# Altium integrated library ATK-CLRK3568B-Core.IntLib: 1 symbol
Pins are listed as number, name and electrical type; pins without a type are passive.

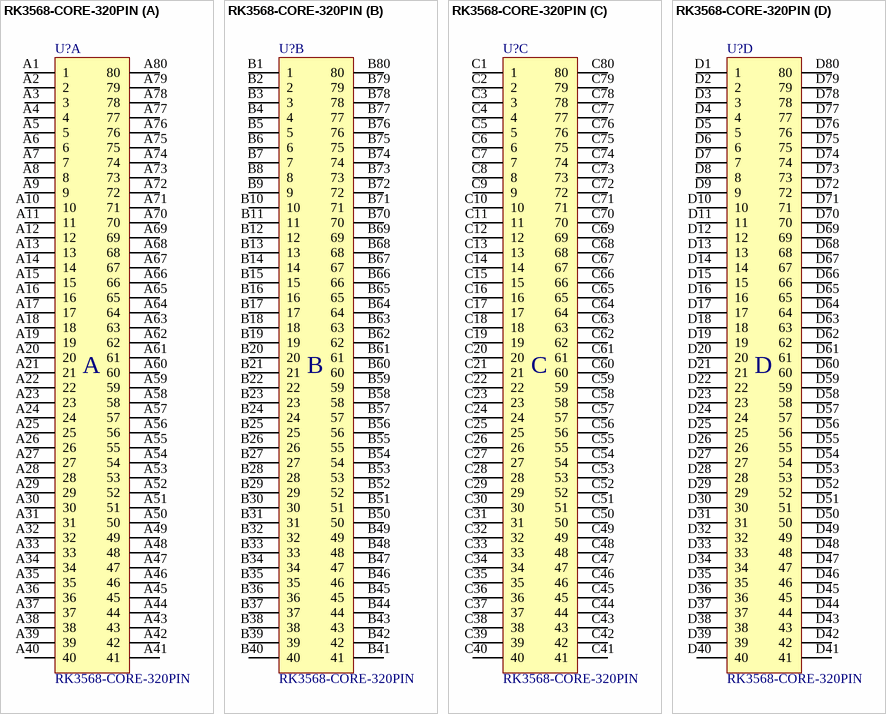
[diagram p0: symbol RK3568-CORE-320PIN]

## RK3568-CORE-320PIN
designator U?
footprint RK3568-CORE-320PIN (Footprint not found)
part A pins: A1 1, A2 2, A3 3, A4 4, A5 5, A6 6, A7 7, A8 8, A9 9, A10 10, A11 11, A12 12, A13 13, A14 14, A15 15, A16 16, A17 17, A18 18, A19 19, A20 20, A21 21, A22 22, A23 23, A24 24, A25 25, A26 26, A27 27, A28 28, A29 29, A30 30, A31 31, A32 32, A33 33, A34 34, A35 35, A36 36, A37 37, A38 38, A39 39, A40 40, A41 41, A42 42, A43 43, A44 44, A45 45, A46 46, A47 47, A48 48, A49 49, A50 50, A51 51, A52 52, A53 53, A54 54, A55 55, A56 56, A57 57, A58 58, A59 59, A60 60, A61 61, A62 62, A63 63, A64 64, A65 65, A66 66, A67 67, A68 68, A69 69, A70 70, A71 71, A72 72, A73 73, A74 74, A75 75, A76 76, A77 77, A78 78, A79 79, A80 80
part B pins: B1 1, B2 2, B3 3, B4 4, B5 5, B6 6, B7 7, B8 8, B9 9, B10 10, B11 11, B12 12, B13 13, B14 14, B15 15, B16 16, B17 17, B18 18, B19 19, B20 20, B21 21, B22 22, B23 23, B24 24, B25 25, B26 26, B27 27, B28 28, B29 29, B30 30, B31 31, B32 32, B33 33, B34 34, B35 35, B36 36, B37 37, B38 38, B39 39, B40 40, B41 41, B42 42, B43 43, B44 44, B45 45, B46 46, B47 47, B48 48, B49 49, B50 50, B51 51, B52 52, B53 53, B54 54, B55 55, B56 56, B57 57, B58 58, B59 59, B60 60, B61 61, B62 62, B63 63, B64 64, B65 65, B66 66, B67 67, B68 68, B69 69, B70 70, B71 71, B72 72, B73 73, B74 74, B75 75, B76 76, B77 77, B78 78, B79 79, B80 80
part C pins: C1 1, C2 2, C3 3, C4 4, C5 5, C6 6, C7 7, C8 8, C9 9, C10 10, C11 11, C12 12, C13 13, C14 14, C15 15, C16 16, C17 17, C18 18, C19 19, C20 20, C21 21, C22 22, C23 23, C24 24, C25 25, C26 26, C27 27, C28 28, C29 29, C30 30, C31 31, C32 32, C33 33, C34 34, C35 35, C36 36, C37 37, C38 38, C39 39, C40 40, C41 41, C42 42, C43 43, C44 44, C45 45, C46 46, C47 47, C48 48, C49 49, C50 50, C51 51, C52 52, C53 53, C54 54, C55 55, C56 56, C57 57, C58 58, C59 59, C60 60, C61 61, C62 62, C63 63, C64 64, C65 65, C66 66, C67 67, C68 68, C69 69, C70 70, C71 71, C72 72, C73 73, C74 74, C75 75, C76 76, C77 77, C78 78, C79 79, C80 80
part D pins: D1 1, D2 2, D3 3, D4 4, D5 5, D6 6, D7 7, D8 8, D9 9, D10 10, D11 11, D12 12, D13 13, D14 14, D15 15, D16 16, D17 17, D18 18, D19 19, D20 20, D21 21, D22 22, D23 23, D24 24, D25 25, D26 26, D27 27, D28 28, D29 29, D30 30, D31 31, D32 32, D33 33, D34 34, D35 35, D36 36, D37 37, D38 38, D39 39, D40 40, D41 41, D42 42, D43 43, D44 44, D45 45, D46 46, D47 47, D48 48, D49 49, D50 50, D51 51, D52 52, D53 53, D54 54, D55 55, D56 56, D57 57, D58 58, D59 59, D60 60, D61 61, D62 62, D63 63, D64 64, D65 65, D66 66, D67 67, D68 68, D69 69, D70 70, D71 71, D72 72, D73 73, D74 74, D75 75, D76 76, D77 77, D78 78, D79 79, D80 80
part A text: A
part B text: B
part C text: C
part D text: D